# Altium footprint library Transistor.PcbLib: 227 footprints (part 3 of 15)
Each footprint in its own frame and in the unit in brackets; x right, y up, seen from the top. Pads: shape width x height; smd on the part's side, far side on the other; paste and mask are expansions set on the pad; w line width, h text height; cw(c..) or ccw(c..) is an arc to the next point about the centre after c.
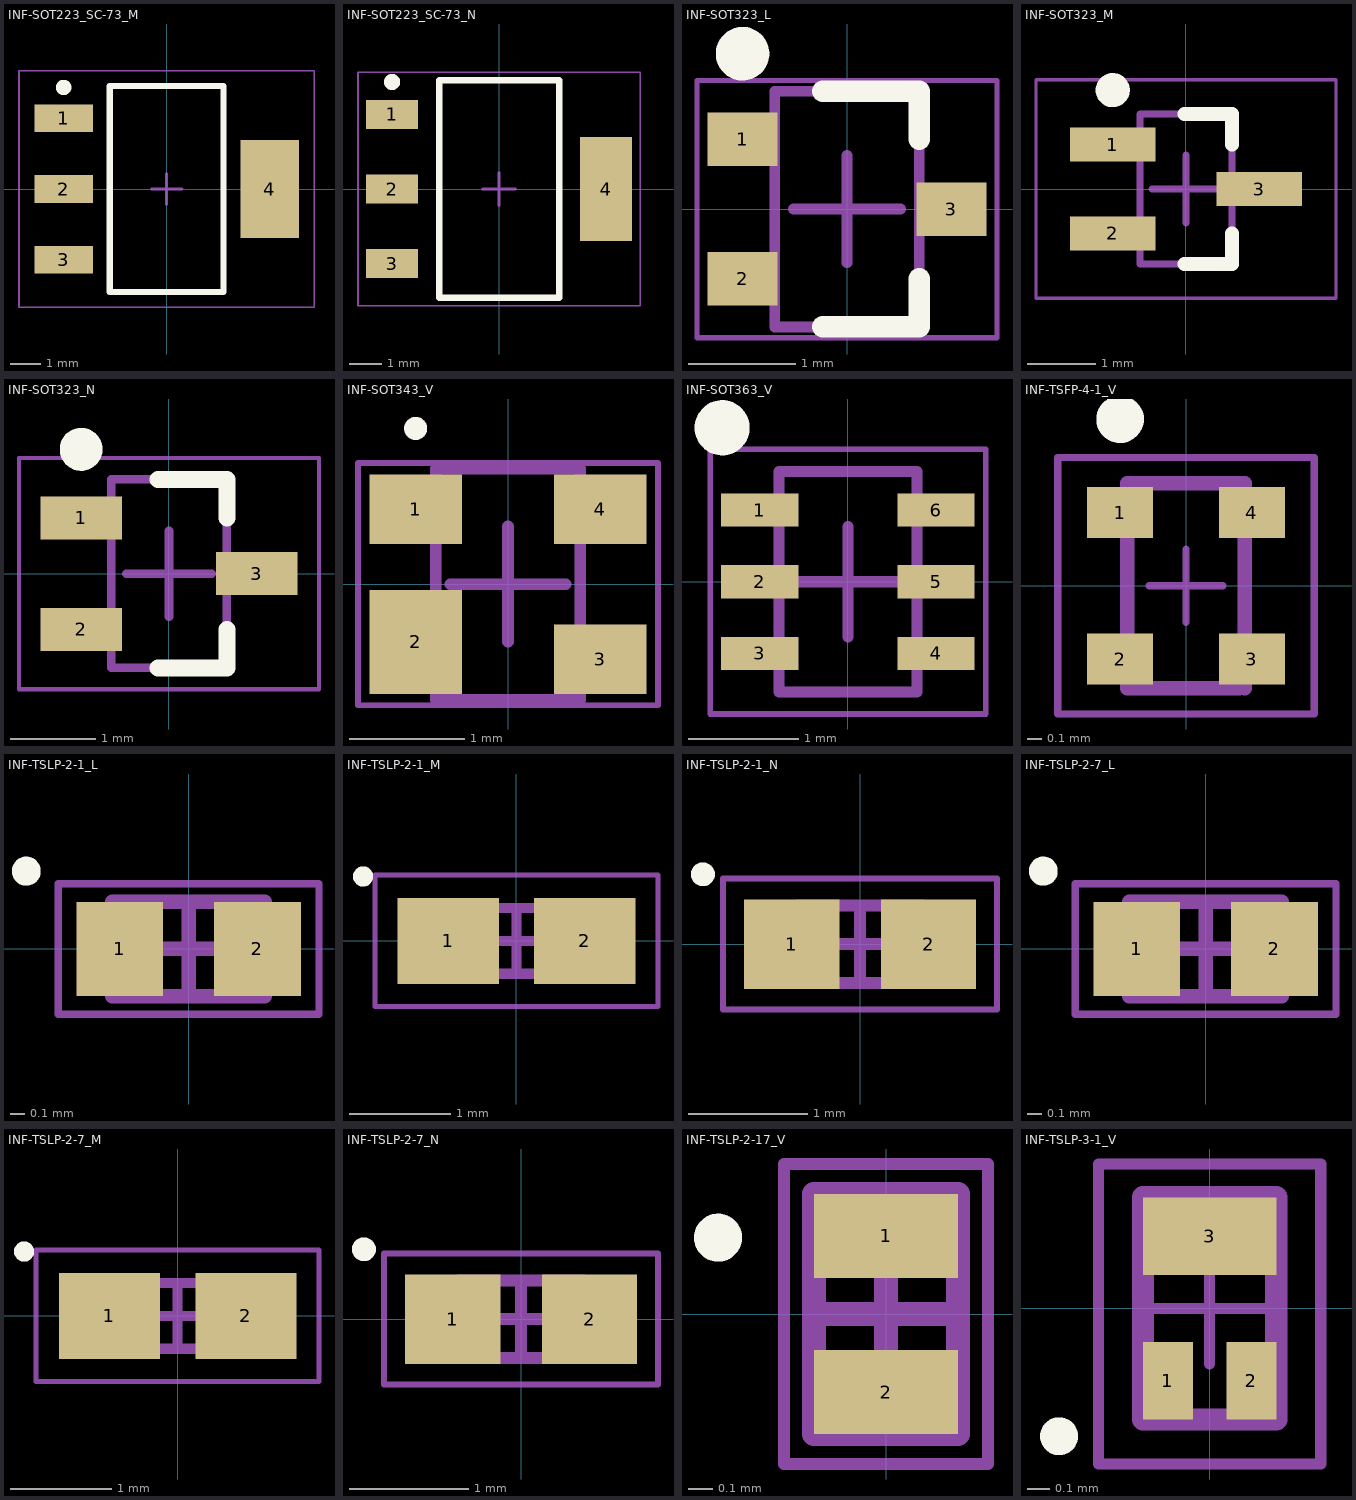
[diagram p2: the footprints below, top view; thin cyan lines are the x and y axes]

## INF-SOT223_SC-73_M [mm] "SOT223, 4-Leads, Body 6.5x3.5mm, Pitch 2.3mm, IPC Low Density"
height 1.8
pads (4):
  rect 1.9x0.9 smd: 1(-3.35,2.3) 2(-3.35,0) 3(-3.35,-2.3)
  rect 1.9x3.2 smd: 4(3.35,0)
Top Overlay:
  circle w0.25: c-3.35,3.3 r0.125
  lines w0.2: -1.85,-3.35 -1.85,3.35 1.85,3.35 1.85,-3.35 -1.85,-3.35
Mechanical 13:
  lines w0.1: -1.85,-3.35 1.85,-3.35 1.85,3.35 -1.85,3.35 -1.85,-3.35
Mechanical 15:
  lines w0.05: -4.8,-3.85 4.8,-3.85 4.8,3.85 -4.8,3.85 -4.8,-3.85
  lines w0.1: -0.5,0 0.5,0 ; 0,-0.5 0,0.5
3D body: height 1.8, standoff 0.1, extent -1.85,-3.35 1.85,3.35

## INF-SOT223_SC-73_N [mm] "SOT223, 4-Leads, Body 6.5x3.5mm, Pitch 2.3mm, IPC Medium Density"
height 1.8
pads (4):
  rect 1.6x0.9 smd: 1(-3.3,2.3) 2(-3.3,0) 3(-3.3,-2.3)
  rect 1.6x3.2 smd: 4(3.3,0)
Top Overlay:
  circle w0.25: c-3.3,3.3 r0.125
  lines w0.2: -1.85,-3.35 -1.85,3.35 1.85,3.35 1.85,-3.35 -1.85,-3.35
Mechanical 13:
  lines w0.1: -1.85,-3.35 1.85,-3.35 1.85,3.35 -1.85,3.35 -1.85,-3.35
Mechanical 15:
  lines w0.05: -4.35,-3.6 4.35,-3.6 4.35,3.6 -4.35,3.6 -4.35,-3.6
  lines w0.1: -0.5,0 0.5,0 ; 0,-0.5 0,0.5
3D body: height 1.8, standoff 0.1, extent -1.85,-3.35 1.85,3.35

## INF-SOT323_L [mm] "SOT23, 3-Leads, Body 2x1.25 mm, Pitch 0.65 mm, IPC High Density"
height 1
pads (3):
  rect 0.65x0.5 smd: 1(-0.975,0.65) 2(-0.975,-0.65) 3(0.975,0)
Top Overlay:
  circle w0.25: c-0.975,1.45 r0.125
  lines w0.2: -0.225,-1.1 0.675,-1.1 0.675,-0.65 ; -0.225,1.1 0.675,1.1 0.675,0.65
Mechanical 13:
  lines w0.1: -0.675,-1.1 -0.675,1.1 0.675,1.1 0.675,-1.1 -0.675,-1.1
Mechanical 15:
  lines w0.05: -1.4,-1.2 -1.4,1.2 1.4,1.2 1.4,-1.2 -1.4,-1.2
  lines w0.1: -0.5,0 0.5,0 ; 0,-0.5 0,0.5
3D body: height 1, standoff 0.1, extent -0.675,-1.1 0.675,1.1

## INF-SOT323_M [mm] "SOT23, 3-Leads, Body 2x1.25 mm, Pitch 0.65 mm, IPC Low Density"
height 1
pads (3):
  rect 1.25x0.5 smd: 1(-1.075,0.65) 2(-1.075,-0.65) 3(1.075,0)
Top Overlay:
  circle w0.25: c-1.075,1.45 r0.125
  lines w0.2: -0.025,-1.1 0.675,-1.1 0.675,-0.65 ; -0.025,1.1 0.675,1.1 0.675,0.65
Mechanical 13:
  lines w0.1: -0.675,-1.1 -0.675,1.1 0.675,1.1 0.675,-1.1 -0.675,-1.1
Mechanical 15:
  lines w0.05: -2.2,-1.6 -2.2,1.6 2.2,1.6 2.2,-1.6 -2.2,-1.6
  lines w0.1: -0.5,0 0.5,0 ; 0,-0.5 0,0.5
3D body: height 1, standoff 0.1, extent -0.675,-1.1 0.675,1.1

## INF-SOT323_N [mm] "SOT23, 3-Leads, Body 2x1.25 mm, Pitch 0.65 mm, IPC Medium Density"
height 1
pads (3):
  rect 0.95x0.5 smd: 1(-1.025,0.65) 2(-1.025,-0.65) 3(1.025,0)
Top Overlay:
  circle w0.25: c-1.025,1.45 r0.125
  lines w0.2: -0.125,-1.1 0.675,-1.1 0.675,-0.65 ; -0.125,1.1 0.675,1.1 0.675,0.65
Mechanical 13:
  lines w0.1: -0.675,-1.1 0.675,-1.1 0.675,1.1 -0.675,1.1 -0.675,-1.1
Mechanical 15:
  lines w0.05: -1.75,-1.35 1.75,-1.35 1.75,1.35 -1.75,1.35 -1.75,-1.35
  lines w0.1: -0.5,0 0.5,0 ; 0,-0.5 0,0.5
3D body: height 1, standoff 0.1, extent -0.675,-1.1 0.675,1.1

## INF-SOT343_V [mm] "SOT343, 4-Leads, Body 2x1.25 mm"
height 1
pads (4):
  rect 0.8x0.6 smd: 1(-0.8,0.65) 3(0.8,-0.65) 4(0.8,0.65)
  rect 0.8x0.9 smd: 2(-0.8,-0.5)
Top Overlay:
  circle w0.1: c-0.8,1.35 r0.05
Mechanical 13:
  lines w0.1: -0.625,-1 0.625,-1 0.625,1 -0.625,1 -0.625,-1
Mechanical 15:
  lines w0.05: -1.3,-1.05 1.3,-1.05 1.3,1.05 -1.3,1.05 -1.3,-1.05
  lines w0.1: -0.5,0 0.5,0 ; 0,-0.5 0,0.5
3D body: height 1, standoff 0.1, extent -0.625,-1 0.625,1

## INF-SOT363_V [mm] "SOT23, 6-Leads, Body 2x1.25 mm, Pitch 0.65 mm"
height 1
pads (6):
  rect 0.7x0.3 smd: 1(-0.8,0.65) 2(-0.8,0) 3(-0.8,-0.65) 4(0.8,-0.65) 5(0.8,0) 6(0.8,0.65)
Top Overlay:
  circle w0.25: c-1.141,1.397 r0.125
Mechanical 13:
  lines w0.1: -0.625,-1 0.625,-1 0.625,1 -0.625,1 -0.625,-1
Mechanical 15:
  lines w0.05: -1.25,-1.2 1.25,-1.2 1.25,1.2 -1.25,1.2 -1.25,-1.2
  lines w0.1: -0.5,0 0.5,0 ; 0,-0.5 0,0.5
3D body: height 1, standoff 0.1, extent -0.625,-1 0.625,1

## INF-TSFP-4-1_V [mm] "SOP-Flat, 4 Leads, Body 0.8x1.4 mm, Pitch 1 mm"
height 0.59
pads (4):
  rect 0.45x0.35 smd: 1(-0.45,0.5) 2(-0.45,-0.5) 3(0.45,-0.5) 4(0.45,0.5)
Top Overlay:
  circle w0.254: c-0.45,1.137 r0.035
Mechanical 13:
  lines w0.1: 0.381,-0.681 0.362,-0.7 -0.4,-0.7 -0.4,0.7 0.4,0.7 0.4,-0.7
Mechanical 15:
  lines w0.05: -0.25,0 0.25,0 ; 0,-0.25 0,0.25 ; -0.875,-0.875 0.875,-0.875 0.875,0.875 -0.875,0.875 -0.875,-0.875
3D body: height 0.59, standoff 0, extent -0.4,-0.7 0.4,0.7

## INF-TSLP-2-1_L [mm] "Chip2PinSM, 2-Leads, Body 1x0.6 mm, Pitch 0.65 mm, IPC High Density"
height 0.5
pads (2):
  rect 0.6x0.65 smd: 1(-0.475,0) 2(0.475,0)
Top Overlay:
  circle w0.1: c-1.12,0.537 r0.05
Mechanical 13:
  lines w0.1: -0.525,-0.325 0.525,-0.325 0.525,0.325 -0.525,0.325 -0.525,-0.325
Mechanical 15:
  lines w0.05: -0.9,-0.45 0.9,-0.45 0.9,0.45 -0.9,0.45 -0.9,-0.45
  lines w0.1: -0.325,0 0.325,0 ; 0,-0.325 0,0.325
3D body: height 0.5, standoff 0, extent 0.275,-0.325 0.525,0.325
3D body: height 0.5, standoff 0, extent -0.525,-0.325 -0.275,0.325
3D body: height 0.5, standoff 0, extent -0.275,-0.325 0.275,0.325

## INF-TSLP-2-1_M [mm] "Chip2PinSM, 2-Leads, Body 1x0.6 mm, Pitch 0.65 mm, IPC Low Density"
height 0.5
pads (2):
  rect 1x0.85 smd: 1(-0.675,0) 2(0.675,0)
Top Overlay:
  circle w0.1: c-1.517,0.637 r0.05
Mechanical 13:
  lines w0.1: -0.525,-0.325 -0.525,0.325 0.525,0.325 0.525,-0.325 -0.525,-0.325
Mechanical 15:
  lines w0.05: -1.4,-0.65 -1.4,0.65 1.4,0.65 1.4,-0.65 -1.4,-0.65
  lines w0.1: -0.325,0 0.325,0 ; 0,-0.325 0,0.325
3D body: height 0.5, standoff 0, extent -0.275,-0.325 0.275,0.325
3D body: height 0.5, standoff 0, extent -0.525,-0.325 -0.275,0.325
3D body: height 0.5, standoff 0, extent 0.275,-0.325 0.525,0.325

## INF-TSLP-2-1_N [mm] "Chip2PinSM, 2-Leads, Body 1x0.6 mm, Pitch 0.65 mm, IPC Medium Density"
height 0.5
pads (2):
  rect 0.8x0.75 smd: 1(-0.575,0) 2(0.575,0)
Top Overlay:
  circle w0.1: c-1.32,0.587 r0.05
Mechanical 13:
  lines w0.1: -0.525,-0.325 0.525,-0.325 0.525,0.325 -0.525,0.325 -0.525,-0.325
Mechanical 15:
  lines w0.05: -1.15,-0.55 1.15,-0.55 1.15,0.55 -1.15,0.55 -1.15,-0.55
  lines w0.1: -0.325,0 0.325,0 ; 0,-0.325 0,0.325
3D body: height 0.5, standoff 0, extent 0.275,-0.325 0.525,0.325
3D body: height 0.5, standoff 0, extent -0.525,-0.325 -0.275,0.325
3D body: height 0.5, standoff 0, extent -0.275,-0.325 0.275,0.325

## INF-TSLP-2-7_L [mm] "Chip2PinSM, 2-Leads, Body 1x0.6 mm, Pitch 0.65 mm, IPC High Density"
height 0.4
pads (2):
  rect 0.6x0.65 smd: 1(-0.475,0) 2(0.475,0)
Top Overlay:
  circle w0.1: c-1.12,0.537 r0.05
Mechanical 13:
  lines w0.1: -0.525,-0.325 -0.525,0.325 0.525,0.325 0.525,-0.325 -0.525,-0.325
Mechanical 15:
  lines w0.05: -0.9,-0.45 -0.9,0.45 0.9,0.45 0.9,-0.45 -0.9,-0.45
  lines w0.1: -0.325,0 0.325,0 ; 0,-0.325 0,0.325
3D body: height 0.4, standoff 0, extent -0.275,-0.325 0.275,0.325
3D body: height 0.4, standoff 0, extent -0.525,-0.325 -0.275,0.325
3D body: height 0.4, standoff 0, extent 0.275,-0.325 0.525,0.325

## INF-TSLP-2-7_M [mm] "Chip2PinSM, 2-Leads, Body 1x0.6 mm, Pitch 0.65 mm, IPC Low Density"
height 0.4
pads (2):
  rect 1x0.85 smd: 1(-0.675,0) 2(0.675,0)
Top Overlay:
  circle w0.1: c-1.52,0.637 r0.05
Mechanical 13:
  lines w0.1: -0.525,-0.325 -0.525,0.325 0.525,0.325 0.525,-0.325 -0.525,-0.325
Mechanical 15:
  lines w0.05: -1.4,-0.65 -1.4,0.65 1.4,0.65 1.4,-0.65 -1.4,-0.65
  lines w0.1: -0.325,0 0.325,0 ; 0,-0.325 0,0.325
3D body: height 0.4, standoff 0, extent -0.275,-0.325 0.275,0.325
3D body: height 0.4, standoff 0, extent -0.525,-0.325 -0.275,0.325
3D body: height 0.4, standoff 0, extent 0.275,-0.325 0.525,0.325

## INF-TSLP-2-7_N [mm] "Chip2PinSM, 2-Leads, Body 1x0.6 mm, Pitch 0.65 mm, IPC Medium Density"
height 0.4
pads (2):
  rect 0.8x0.75 smd: 1(-0.575,0) 2(0.575,0)
Top Overlay:
  circle w0.1: c-1.32,0.587 r0.05
Mechanical 13:
  lines w0.1: -0.525,-0.325 -0.525,0.325 0.525,0.325 0.525,-0.325 -0.525,-0.325
Mechanical 15:
  lines w0.05: -1.15,-0.55 -1.15,0.55 1.15,0.55 1.15,-0.55 -1.15,-0.55
  lines w0.1: -0.325,0 0.325,0 ; 0,-0.325 0,0.325
3D body: height 0.4, standoff 0, extent -0.275,-0.325 0.275,0.325
3D body: height 0.4, standoff 0, extent -0.525,-0.325 -0.275,0.325
3D body: height 0.4, standoff 0, extent 0.275,-0.325 0.525,0.325

## INF-TSLP-2-17_V [mm] "TSLP, 2-Leads, Body 1x0.6mm, Pitch 0.65mm"
height 0.4
pads (2):
  rect 0.6x0.35 smd: 1(0,0.325) 2(0,-0.325)
Top Overlay:
  circle w0.1: c-0.7,0.318 r0.05
Mechanical 13:
  lines w0.1: -0.3,-0.5 0.3,-0.5 0.3,0.5 -0.3,0.5 -0.3,-0.5
Mechanical 15:
  lines w0.05: -0.425,-0.625 0.425,-0.625 0.425,0.625 -0.425,0.625 -0.425,-0.625
  lines w0.1: -0.25,0 0.25,0 ; 0,-0.25 0,0.25
3D body: height 0.4, standoff 0, extent -0.3,-0.5 0.3,0.5

## INF-TSLP-3-1_V [mm] "TSLP, 3-Leads, Body 0.6x1 mm"
height 0.5
pads (3):
  rect 0.225x0.35 smd: 1(-0.188,-0.325) 2(0.188,-0.325)
  rect 0.6x0.35 smd: 3(0,0.325)
Top Overlay:
  circle w0.1: c-0.677,-0.575 r0.035
Mechanical 13:
  lines w0.1: -0.3,-0.5 0.3,-0.5 0.3,0.5 -0.3,0.5 -0.3,-0.5
Mechanical 15:
  lines w0.05: -0.25,0 0.25,0 ; 0,-0.25 0,0.25 ; -0.5,-0.7 0.5,-0.7 0.5,0.65 -0.5,0.65 -0.5,-0.7
3D body: height 0.5, standoff 0, extent -0.3,-0.5 0.3,0.5